# Altium footprint library H750.PcbLib: 22 footprints (part 1 of 2)
Each footprint in its own frame and in the unit in brackets; x right, y up, seen from the top. Pads: shape width x height; smd on the part's side, far side on the other; paste and mask are expansions set on the pad; w line width, h text height; cw(c..) or ccw(c..) is an arc to the next point about the centre after c.
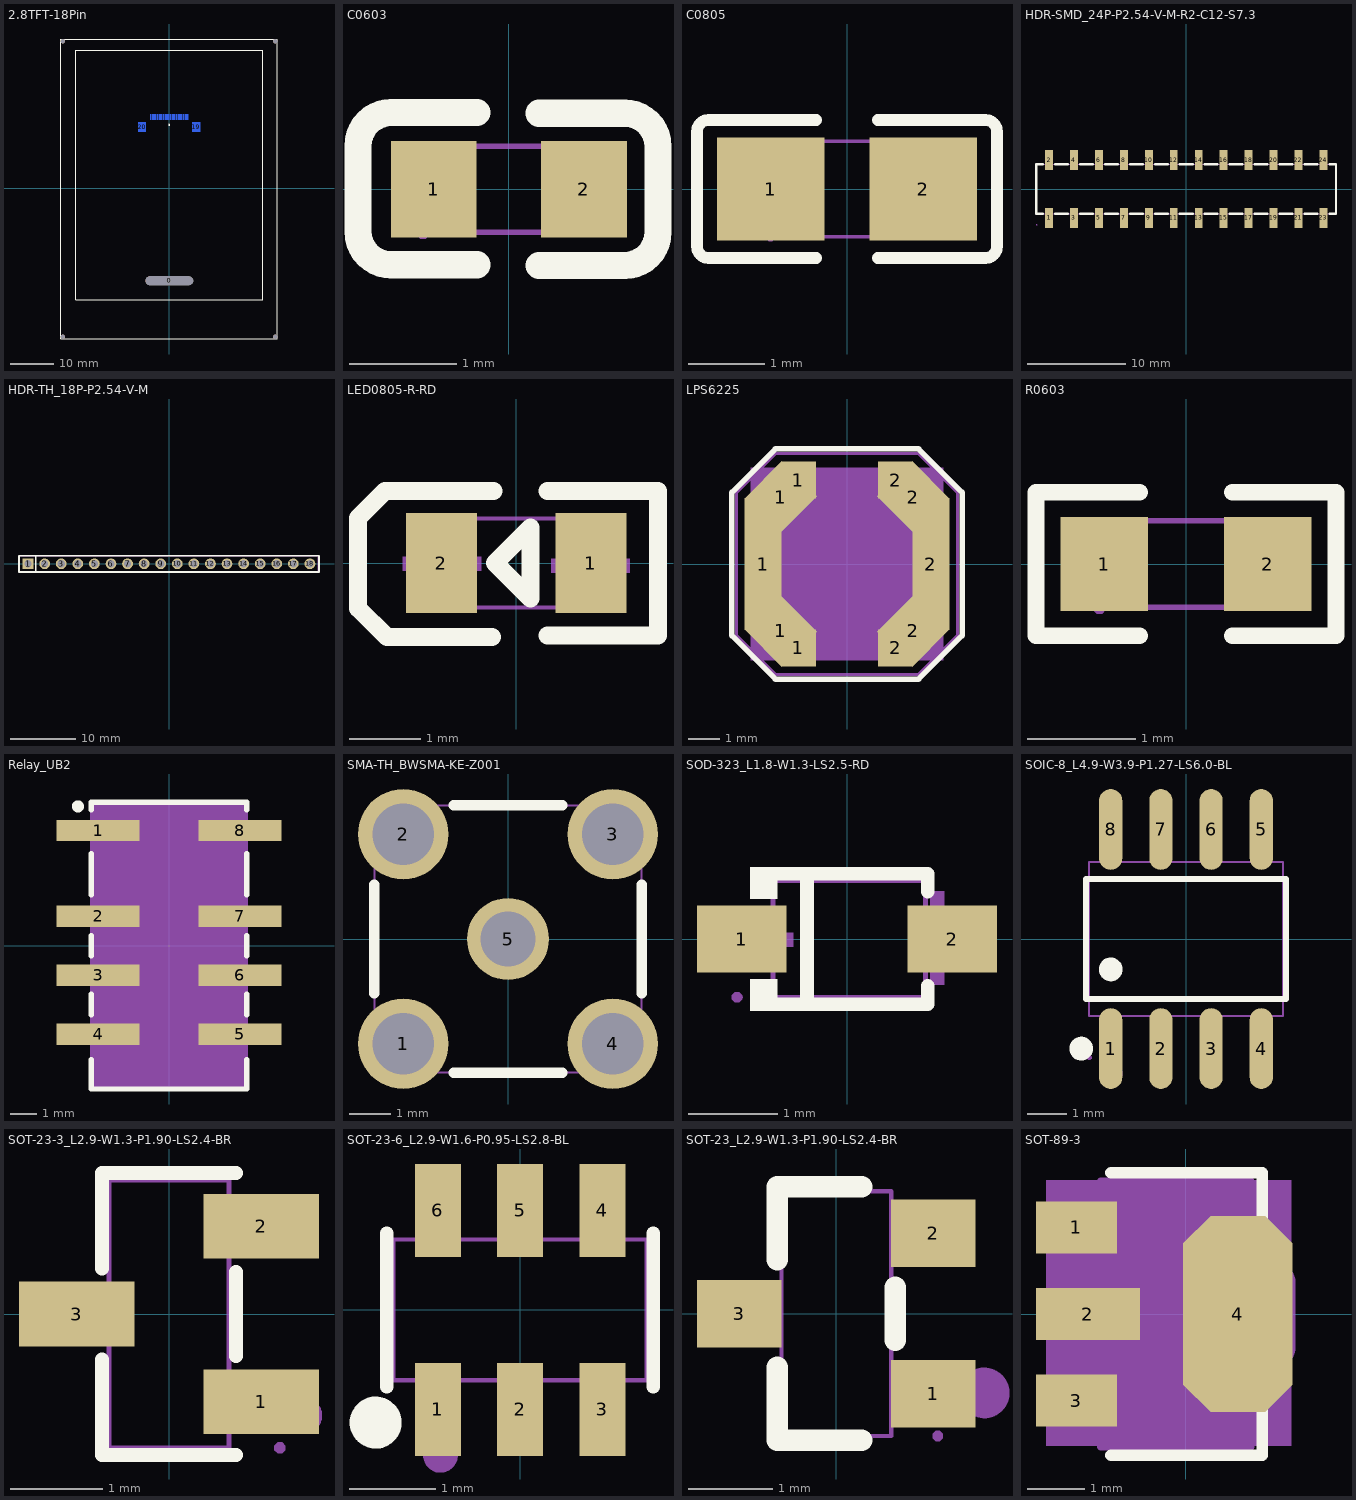
[diagram p0: the footprints below, top view; thin cyan lines are the x and y axes]

## 2.8TFT-18Pin [mm]
pads (25):
  oval 11x2 hole 2 slot 11 at 0 deg unplated paste+0.102 mask-11: 0(0.046,-21.395)
  rect 0.3x1.2 smd far side paste+0.102 mask+0.05: 1(-4.25,16.399) 2(-3.75,16.399) 3(-3.25,16.399) 4(-2.75,16.399) 5(-2.25,16.399) 6(-1.75,16.399) 7(-1.25,16.399) 8(-0.75,16.399) 9(-0.25,16.399) 10(0.25,16.399) 11(0.75,16.399) 12(1.25,16.399) 13(1.75,16.399) 14(2.25,16.399) 15(2.75,16.399) 16(3.25,16.399) 17(3.75,16.399) 18(4.25,16.399)
  rect 1.8x2.2 smd far side: 19(6.25,14.099) 20(-6.25,14.099)
  round 1 hole 1 unplated paste+0.102 mask-1: 21(-24.554,-34.342) 21(-24.554,33.908) 21(24.496,-34.342) 21(24.496,33.908)
Top Overlay:
  circle w0.254: c0,14.605 r0.1
  lines w0.254: -21.604,-25.792 21.596,-25.792 21.596,31.808 -21.604,31.808 ; -21.594,-25.783 -21.594,31.817 ; -25.023,-34.783 -25.023,34.417 24.977,34.417 24.977,-34.783 -25.023,-34.783
Bottom Overlay:
  circle w0.254: c0,14.605 r0.1
  lines w0.254: -6.604,-22.992 -6.604,11.811 ; -6.604,12.767 -6.604,10.811 ; -6.604,15.431 -6.604,16.399 -4.631,16.399 ; 4.631,16.399 6.604,16.399 ; 6.6,10.811 -6.604,10.811 ; 6.604,-22.993 6.604,11.81 ; 6.604,12.767 6.604,10.811 ; 6.604,15.431 6.604,16.399 ; -6.604,10.811 6.604,10.811 ; 6.604,10.811 6.604,16.399
  text "1" at -4.087,14.165 h1.53
  text "18" at 5.015,14.159 h1.54

## C0603 [mm]
pads (2):
  rect 0.8x0.9 smd: 1(-0.7,0) 2(0.7,0)
Top Overlay:
  lines w0.254: -0.296,-0.704 -1.096,-0.704 cw(c-1.096,-0.394) -1.406,-0.394 -1.405,0.406 cw(c-1.096,0.406) -1.096,0.715 -0.296,0.715 ; 0.28,-0.71 1.08,-0.71 ccw(c1.08,-0.4) 1.39,-0.4 1.39,0.4 ccw(c1.08,0.4) 1.08,0.71 0.28,0.71
Mechanical 15:
  region: -0.8,-0.46 -0.825,-0.46 -0.859,-0.425 -0.859,-0.376 -0.825,-0.341 -0.8,-0.34 -0.776,-0.341 -0.741,-0.376 -0.741,-0.425 -0.776,-0.46 -0.8,-0.46
  region: 0.8,-0.4 0.8,0.4 0.5,0.4 0.5,-0.4
  region: -0.8,-0.4 -0.8,0.4 -0.5,0.4 -0.5,-0.4
  lines w0.051: -0.8,-0.4 0.8,-0.4 0.8,0.4 -0.8,0.4 -0.8,-0.4

## C0805 [mm]
pads (2):
  rect 1.41x1.35 smd paste-100 mask+0.051: 1(-1,0) 2(1,0)
Top Overlay:
  lines w0.152: -0.401,-0.904 -1.811,-0.904 cw(c-1.811,-0.751) -1.964,-0.751 -1.964,0.751 cw(c-1.811,0.751) -1.811,0.904 -0.401,0.904 ; 0.401,-0.904 1.811,-0.904 ccw(c1.811,-0.751) 1.964,-0.751 1.964,0.751 ccw(c1.811,0.751) 1.811,0.904 0.401,0.904
Top Paste:
  region: 0.475,-0.62 0.475,-0.2 0.92,-0.2 0.92,0.25 0.48,0.25 0.475,0.66 0.525,0.71 1.675,0.71 1.725,0.66 1.725,-0.62 1.675,-0.67 0.525,-0.67
  region: -1.675,-0.62 -1.675,0.66 -1.625,0.71 -0.475,0.71 -0.425,0.66 -0.42,0.25 -0.87,0.25 -0.87,-0.2 -0.43,-0.2 -0.425,-0.62 -0.475,-0.67 -1.625,-0.67
Mechanical 15:
  region: -1.06,-0.625 -1.059,-0.601 -1.024,-0.566 -0.976,-0.566 -0.941,-0.601 -0.94,-0.625 -0.941,-0.65 -0.976,-0.684 -1.024,-0.684 -1.059,-0.65 -1.06,-0.625
  region: 1,0.625 1,-0.625 0.5,-0.625 0.5,0.625
  region: -1,-0.625 -1,0.625 -0.5,0.625 -0.5,-0.625
  lines w0.051: -1,-0.625 1,-0.625 1,0.625 -1,0.625 -1,-0.625

## HDR-SMD_24P-P2.54-V-M-R2-C12-S7.3 [mm]
pads (24):
  rect 0.8x2 smd: 1(-13.97,-2.95) 2(-13.97,2.95) 3(-11.43,-2.95) 4(-11.43,2.95) 5(-8.89,-2.95) 6(-8.89,2.95) 7(-6.35,-2.95) 8(-6.35,2.95) 9(-3.81,-2.95) 10(-3.81,2.95) 11(-1.27,-2.95) 12(-1.27,2.95) 13(1.27,-2.95) 14(1.27,2.95) 15(3.81,-2.95) 16(3.81,2.95) 17(6.35,-2.95) 18(6.35,2.95) 19(8.89,-2.95) 20(8.89,2.95) 21(11.43,-2.95) 22(11.43,2.95) 23(13.97,-2.95) 24(13.97,2.95)
Top Overlay:
  lines w0.254: -14.601,-2.5 -15.25,-2.5 -15.25,0.85 -15.25,2.5 -14.601,2.5 ; -13.339,-2.5 -12.061,-2.5 ; -13.339,2.5 -12.061,2.5 ; -10.799,-2.5 -9.521,-2.5 ; -10.799,2.5 -9.521,2.5 ; -8.259,-2.5 -6.981,-2.5 ; -8.259,2.5 -6.981,2.5 ; -5.719,-2.5 -4.441,-2.5 ; -5.719,2.5 -4.441,2.5 ; -3.179,-2.5 -1.901,-2.5 ; -3.179,2.5 -1.901,2.5 ; -0.639,-2.5 0.639,-2.5 ; -0.639,2.5 0.639,2.5 ; 1.901,-2.5 3.179,-2.5 ; 1.901,2.5 3.179,2.5 ; 4.441,-2.5 5.719,-2.5 ; 4.441,2.5 5.719,2.5 ; 6.981,-2.5 8.259,-2.5 ; 6.981,2.5 8.259,2.5 ; 9.521,-2.5 10.799,-2.5 ; 9.521,2.5 10.799,2.5 ; 12.061,-2.5 13.339,-2.5 ; 12.061,2.5 13.339,2.5 ; 14.601,-2.5 15.25,-2.5 15.25,2.5 14.601,2.5
Mechanical 15:
  region: 13.705,3.65 14.235,3.65 14.235,2.15 13.705,2.15
  region: 13.705,-2.15 14.235,-2.15 14.235,-3.65 13.705,-3.65
  region: 11.165,3.65 11.695,3.65 11.695,2.15 11.165,2.15
  region: 11.165,-2.15 11.695,-2.15 11.695,-3.65 11.165,-3.65
  region: 8.625,3.65 9.155,3.65 9.155,2.15 8.625,2.15
  region: 8.625,-2.15 9.155,-2.15 9.155,-3.65 8.625,-3.65
  region: 6.085,3.65 6.615,3.65 6.615,2.15 6.085,2.15
  region: 6.085,-2.15 6.615,-2.15 6.615,-3.65 6.085,-3.65
  region: 3.545,3.65 4.075,3.65 4.075,2.15 3.545,2.15
  region: 3.545,-2.15 4.075,-2.15 4.075,-3.65 3.545,-3.65
  region: 1.005,3.65 1.535,3.65 1.535,2.15 1.005,2.15
  region: 1.005,-2.15 1.535,-2.15 1.535,-3.65 1.005,-3.65
  region: -1.535,3.65 -1.005,3.65 -1.005,2.15 -1.535,2.15
  region: -1.535,-2.15 -1.005,-2.15 -1.005,-3.65 -1.535,-3.65
  region: -4.075,3.65 -3.545,3.65 -3.545,2.15 -4.075,2.15
  region: -4.075,-2.15 -3.545,-2.15 -3.545,-3.65 -4.075,-3.65
  region: -6.615,3.65 -6.085,3.65 -6.085,2.15 -6.615,2.15
  region: -6.615,-2.15 -6.085,-2.15 -6.085,-3.65 -6.615,-3.65
  region: -9.155,3.65 -8.625,3.65 -8.625,2.15 -9.155,2.15
  region: -9.155,-2.15 -8.625,-2.15 -8.625,-3.65 -9.155,-3.65
  region: -11.695,3.65 -11.165,3.65 -11.165,2.15 -11.695,2.15
  region: -11.695,-2.15 -11.165,-2.15 -11.165,-3.65 -11.695,-3.65
  region: -14.235,3.65 -13.705,3.65 -13.705,2.15 -14.235,2.15
  region: -14.235,-2.15 -13.705,-2.15 -13.705,-3.65 -14.235,-3.65
  region: -15.24,-3.71 -15.216,-3.71 -15.181,-3.675 -15.181,-3.626 -15.216,-3.591 -15.24,-3.59 -15.264,-3.591 -15.299,-3.626 -15.299,-3.675 -15.264,-3.71 -15.24,-3.71
  lines w0.051: -15.24,-2.5 15.24,-2.5 15.24,2.5 -15.24,2.5 -15.24,-2.5

## HDR-TH_18P-P2.54-V-M [mm]
pads (18):
  rect 1.65x1.6 hole 1.1: 1(-21.59,0)
  round 1.65 hole 1.1: 2(-19.05,0) 3(-16.51,0) 4(-13.97,0) 5(-11.43,0) 6(-8.89,0) 7(-6.35,0) 8(-3.81,0) 9(-1.27,0) 10(1.27,0) 11(3.81,0) 12(6.35,0) 13(8.89,0) 14(11.43,0) 15(13.97,0) 16(16.51,0) 17(19.05,0) 18(21.59,0)
Top Overlay:
  lines w0.254: -20.412,-1.25 -20.412,1.25 ; -22.98,-1.25 22.98,-1.25 22.98,1.25 -22.98,1.25 -22.98,-1.25
Mechanical 15:
  region: -21.91,0.32 -21.27,0.32 -21.27,-0.32 -21.91,-0.32
  region: -19.37,0.32 -18.73,0.32 -18.73,-0.32 -19.37,-0.32
  region: -16.83,0.32 -16.19,0.32 -16.19,-0.32 -16.83,-0.32
  region: -14.29,0.32 -13.65,0.32 -13.65,-0.32 -14.29,-0.32
  region: -11.75,0.32 -11.11,0.32 -11.11,-0.32 -11.75,-0.32
  region: -9.21,0.32 -8.57,0.32 -8.57,-0.32 -9.21,-0.32
  region: -6.67,0.32 -6.03,0.32 -6.03,-0.32 -6.67,-0.32
  region: -4.13,0.32 -3.49,0.32 -3.49,-0.32 -4.13,-0.32
  region: -1.59,0.32 -0.95,0.32 -0.95,-0.32 -1.59,-0.32
  region: 0.95,0.32 1.59,0.32 1.59,-0.32 0.95,-0.32
  region: 3.49,0.32 4.13,0.32 4.13,-0.32 3.49,-0.32
  region: 6.03,0.32 6.67,0.32 6.67,-0.32 6.03,-0.32
  region: 8.57,0.32 9.21,0.32 9.21,-0.32 8.57,-0.32
  region: 11.11,0.32 11.75,0.32 11.75,-0.32 11.11,-0.32
  region: 13.65,0.32 14.29,0.32 14.29,-0.32 13.65,-0.32
  region: 16.19,0.32 16.83,0.32 16.83,-0.32 16.19,-0.32
  region: 18.73,0.32 19.37,0.32 19.37,-0.32 18.73,-0.32
  region: 21.27,0.32 21.91,0.32 21.91,-0.32 21.27,-0.32
  region: -22.8,-1.25 -22.8,-1.225 -22.835,-1.19 -22.885,-1.19 -22.92,-1.225 -22.92,-1.25 -22.92,-1.275 -22.885,-1.31 -22.835,-1.31 -22.8,-1.275 -22.8,-1.25
  lines w0.051: -22.86,-1.25 22.86,-1.25 22.86,1.25 -22.86,1.25 -22.86,-1.25

## LED0805-R-RD [mm]
pads (2):
  rect 1x1.4 smd: 1(1.05,0) 2(-1.05,0)
Top Overlay:
  lines w0.254: -0.344,-1.043 -1.817,-1.043 -2.224,-0.636 -2.224,0.634 -1.843,1.015 -0.319,1.015 ; 0.443,-1.017 1.993,-1.017 1.993,1.015 0.443,1.015 ; -0.3,0 -0.2,-0.1 0.2,-0.5 0.2,0.5 -0.2,0.1 -0.3,0
Mechanical 6:
  region: -0.494,-0.109 -1.594,-0.109 -1.594,0.091 -0.494,0.091
  region: 0.494,0.06 1.594,0.06 1.594,-0.14 0.494,-0.14
  region: 0.941,-0.556 0.941,0.544 1.141,0.544 1.141,-0.556
Mechanical 15:
  region: -0.6,-0.625 -1,-0.625 -1,0.625 -0.6,0.625
  region: 1,-0.625 0.6,-0.625 0.6,0.625 1,0.625
  region: 0.94,0.625 0.941,0.601 0.976,0.566 1.024,0.566 1.059,0.601 1.06,0.625 1.059,0.65 1.024,0.684 0.976,0.684 0.941,0.65 0.94,0.625
  lines w0.051: -1,-0.625 1,-0.625 1,0.625 -1,0.625 -1,-0.625

## LPS6225 [mm]
pads (10):
  rect 1.2x4.25 smd: 1(-2.7,0) 2(2.7,0)
  rect 1.68x1.6 smd rot 135: 1(-2.126,-2.151) 2(2.126,2.151)
  rect 1.68x1.6 smd rot 45: 1(-2.126,2.151) 2(2.126,-2.151)
  rect 1.125x1.2 smd: 1(-1.562,-2.7) 1(-1.562,2.7) 2(1.562,-2.7) 2(1.562,2.7)
Top Overlay:
  lines w0.178: -3.7,-2.3 -3.7,0 -3.7,2.3 -2.3,3.7 0,3.7 2.3,3.7 3.7,2.3 3.7,0 3.7,-2.3 2.3,-3.7 0,-3.7 -2.3,-3.7 -3.7,-2.3
Mechanical 1:
  region: -3.103,3.103 3.103,3.103 3.103,-3.103 -3.103,-3.103
Mechanical 2:
  lines w0.102: -3.556,-2.286 -2.286,-3.556 2.286,-3.556 3.556,-2.286 3.556,2.286 2.286,3.556 -2.286,3.556 -3.556,2.286 -3.556,-2.286
  text ".Designator" at -1.306,-0.202 h1.57

## R0603 [mm]
pads (2):
  rect 0.806x0.864 smd paste-100 mask+0.051: 1(-0.753,0) 2(0.753,0)
Top Overlay:
  lines w0.152: -0.426,-0.661 -1.385,-0.661 -1.385,0.661 -0.426,0.661 ; 0.426,-0.661 1.385,-0.661 1.385,0.661 0.426,0.661
Top Paste:
  region: -0.355,0.4 -0.355,0.172 -0.735,0.172 -0.735,-0.158 -0.355,-0.158 -0.355,-0.4 -0.405,-0.45 -1.195,-0.45 -1.245,-0.4 -1.245,0.4 -1.195,0.45 -0.405,0.45
  region: 1.195,0.45 0.395,0.45 0.345,0.4 0.345,0.172 0.715,0.172 0.715,-0.158 0.345,-0.158 0.345,-0.4 0.395,-0.45 1.195,-0.45 1.245,-0.4 1.245,0.4
Mechanical 15:
  region: -0.74,-0.4 -0.741,-0.425 -0.776,-0.459 -0.825,-0.459 -0.86,-0.425 -0.86,-0.4 -0.86,-0.376 -0.825,-0.341 -0.776,-0.341 -0.741,-0.376 -0.74,-0.4
  region: 0.8,-0.4 0.8,0.4 0.5,0.4 0.5,-0.4
  region: -0.8,-0.4 -0.8,0.4 -0.5,0.4 -0.5,-0.4
  lines w0.051: -0.8,-0.4 0.8,-0.4 0.8,0.4 -0.8,0.4 -0.8,-0.4

## Relay_UB2 [mm]
pads (8):
  rect 3.1x0.8 smd: 1(-2.65,4.3) 2(-2.65,1.1) 3(-2.65,-1.1) 4(-2.65,-3.3) 5(2.65,-3.3) 6(2.65,-1.1) 7(2.65,1.1) 8(2.65,4.3)
Top Overlay:
  circle w0.254: c-3.4,5.2 r0.1
  lines w0.2: -2.9,-4.25 -2.9,-5.35 2.9,-5.35 2.9,-4.25 ; -2.9,-2.581 -2.9,-1.819 ; -2.9,-0.381 -2.9,0.381 ; -2.9,1.905 -2.9,3.429 ; -2.9,5.08 -2.9,5.35 2.9,5.35 2.9,5.08 ; 2.9,-2.581 2.9,-1.819 ; 2.9,-0.381 2.9,0.381 ; 2.9,1.905 2.9,3.429
Mechanical 2:
  circle w0.3: c-1.8,4.3 r0.1
  lines w0.1: -2.9,-5.35 2.9,-5.35 2.9,5.35 -2.9,5.35 -2.9,-5.35
  text ".Designator" at -1.08,-0.856 h1.57
Mechanical 3:
  region: -2.899,-5.349 -2.899,5.349 2.899,5.349 2.899,-5.349
  region: -2.298,4.001 -1.7,4.001 -1.7,4.599 -2.298,4.599

## SMA-TH_BWSMA-KE-Z001 [mm]
pads (5):
  round 2.2 hole 1.5: 1(-2.55,-2.55) 2(-2.55,2.55) 3(2.55,2.55)
  round 2.2 hole 1.5 copper offset 0,0: 4(2.55,-2.55)
  round 2 hole 1.35: 5(0,0)
Top Overlay:
  lines w0.254: -3.25,-1.316 -3.25,1.316 ; -1.316,-3.25 1.316,-3.25 ; -1.316,3.25 1.316,3.25 ; 3.25,-1.316 3.25,1.316
Mechanical 15:
  region: -3,-2.1 -2.1,-2.1 -2.1,-3 -3,-3
  region: -3,3 -2.1,3 -2.1,2.1 -3,2.1
  region: 2.1,3 3,3 3,2.1 2.1,2.1
  region: 2.1,-2.1 3,-2.1 3,-3 2.1,-3
  region: 0.425,0 0.424,0.084 0.359,0.239 0.24,0.358 0.084,0.422 -0.084,0.422 -0.24,0.358 -0.359,0.239 -0.425,0.084 -0.425,0 -0.425,-0.084 -0.359,-0.239 -0.24,-0.357 -0.084,-0.422 0.084,-0.422 0.24,-0.358 0.359,-0.239 0.424,-0.084 0.425,0
  region: -3.19,-3.25 -3.191,-3.226 -3.226,-3.193 -3.274,-3.193 -3.309,-3.226 -3.31,-3.25 -3.309,-3.274 -3.274,-3.307 -3.226,-3.307 -3.191,-3.274 -3.19,-3.25
  lines w0.051: -3.25,-3.25 -3.25,3.25 3.25,3.25 3.25,-3.25 -3.25,-3.25

## SOD-323_L1.8-W1.3-LS2.5-RD [mm]
pads (2):
  rect 1x0.75 smd: 1(-1.173,0) 2(1.173,0)
Top Overlay:
  region: -0.775,-0.802 -0.775,-0.45 -1.08,-0.45 -1.08,-0.802
  region: -0.775,0.802 -0.775,0.45 -1.08,0.45 -1.08,0.802
  lines w0.152: -0.851,-0.726 0.901,-0.726 0.901,-0.52 ; -0.851,0.726 0.901,0.726 0.901,0.53 ; -0.447,-0.726 -0.447,0.726
Mechanical 6:
  region: 1.083,0.53 1.083,-0.51 0.927,-0.51 0.927,0.53
  region: 1.315,0.09 1.315,-0.066 0.691,-0.066 0.691,0.09
  region: -1.225,0.07 -1.225,-0.086 -0.601,-0.086 -0.601,0.07
Mechanical 15:
  region: -0.815,0.16 -0.815,-0.16 -0.935,-0.16 -0.935,0.16
  region: -0.925,0.16 -0.925,-0.16 -1.225,-0.16 -1.225,0.16
  region: 0.985,0.16 0.985,-0.16 0.865,-0.16 0.865,0.16
  region: 1.275,0.16 1.275,-0.16 0.975,-0.16 0.975,0.16
  region: -1.285,-0.65 -1.284,-0.626 -1.249,-0.593 -1.201,-0.593 -1.166,-0.626 -1.165,-0.65 -1.166,-0.674 -1.201,-0.707 -1.249,-0.707 -1.284,-0.674 -1.285,-0.65
  lines w0.051: -0.825,-0.65 -0.825,0.65 0.875,0.65 0.875,-0.65 -0.825,-0.65

## SOIC-8_L4.9-W3.9-P1.27-LS6.0-BL [mm]
pads (8):
  oval 0.588x2.045 smd: 1(-1.905,-2.772) 2(-0.635,-2.772) 3(0.635,-2.772) 4(1.905,-2.772) 5(1.905,2.772) 6(0.635,2.772) 7(-0.635,2.772) 8(-1.905,2.772)
Top Overlay:
  circle w0.3: c-2.652,-2.772 r0.15
  circle w0.3: c-1.905,-0.769 r0.15
  lines w0.152: -2.526,-1.521 2.526,-1.521 2.526,1.521 -2.526,1.521 -2.526,-1.521
Mechanical 6:
  circle w0.3: c-1.905,-3.4 r0.15
Mechanical 15:
  region: 1.695,2.175 1.695,1.94 2.115,1.94 2.115,2.175
  region: 1.695,3 1.695,2.165 2.115,2.165 2.115,3
  region: 0.425,2.175 0.425,1.94 0.845,1.94 0.845,2.175
  region: 0.425,3 0.425,2.165 0.845,2.165 0.845,3
  region: -0.845,2.175 -0.845,1.94 -0.425,1.94 -0.425,2.175
  region: -0.845,3 -0.845,2.165 -0.425,2.165 -0.425,3
  region: -2.115,2.175 -2.115,1.94 -1.695,1.94 -1.695,2.175
  region: -2.115,3 -2.115,2.165 -1.695,2.165 -1.695,3
  region: 1.695,-2.175 1.695,-1.94 2.115,-1.94 2.115,-2.175
  region: 1.695,-3 1.695,-2.165 2.115,-2.165 2.115,-3
  region: 0.425,-2.175 0.425,-1.94 0.845,-1.94 0.845,-2.175
  region: 0.425,-3 0.425,-2.165 0.845,-2.165 0.845,-3
  region: -0.845,-2.175 -0.845,-1.94 -0.425,-1.94 -0.425,-2.175
  region: -0.845,-3 -0.845,-2.165 -0.425,-2.165 -0.425,-3
  region: -2.115,-2.175 -2.115,-1.94 -1.695,-1.94 -1.695,-2.175
  region: -2.115,-3 -2.115,-2.165 -1.695,-2.165 -1.695,-3
  region: -2.45,-3.06 -2.475,-3.06 -2.51,-3.025 -2.51,-2.975 -2.475,-2.94 -2.45,-2.94 -2.425,-2.94 -2.39,-2.975 -2.39,-3.025 -2.425,-3.06 -2.45,-3.06
  lines w0.051: -2.45,-1.95 2.45,-1.95 2.45,1.95 -2.45,1.95 -2.45,-1.95

## SOT-23-3_L2.9-W1.3-P1.90-LS2.4-BR [mm]
pads (3):
  rect 1.25x0.7 smd: 1(1,-0.95) 2(1,0.95) 3(-1,0)
Top Overlay:
  lines w0.152: -0.726,-0.495 -0.726,-1.526 0.726,-1.526 ; -0.726,0.495 -0.726,1.526 0.726,1.526 ; 0.726,-0.455 0.726,0.455
Mechanical 6:
  circle w0.2: c1.46,-1.1 r0.1
Mechanical 15:
  region: -1.2,-0.215 -1.2,0.215 -0.9,0.215 -0.9,-0.215
  region: -0.91,-0.215 -0.91,0.215 -0.64,0.215 -0.64,-0.215
  region: 0.9,-1.165 0.9,-0.735 1.2,-0.735 1.2,-1.165
  region: 0.64,-1.165 0.64,-0.735 0.91,-0.735 0.91,-1.165
  region: 0.9,0.735 0.9,1.165 1.2,1.165 1.2,0.735
  region: 0.64,0.735 0.64,1.165 0.91,1.165 0.91,0.735
  region: 1.26,-1.45 1.259,-1.474 1.224,-1.508 1.176,-1.508 1.141,-1.474 1.14,-1.45 1.141,-1.426 1.176,-1.392 1.224,-1.392 1.259,-1.426 1.26,-1.45
  lines w0.051: -0.65,-1.45 0.65,-1.45 0.65,1.45 -0.65,1.45 -0.65,-1.45

## SOT-23-6_L2.9-W1.6-P0.95-LS2.8-BL [mm]
pads (6):
  rect 0.532x1.072 smd: 1(-0.95,-1.149) 2(0,-1.149) 3(0.95,-1.149) 4(0.95,1.149) 5(0,1.149) 6(-0.95,1.149)
Top Overlay:
  circle w0.3: c-1.668,-1.301 r0.15
  lines w0.152: -1.539,-0.889 -1.539,0.889 ; 1.539,-0.889 1.539,0.889
Mechanical 6:
  circle w0.2: c-0.92,-1.68 r0.1
Mechanical 15:
  region: -1.165,0.935 -0.735,0.935 -0.735,0.803 -1.165,0.803
  region: -1.165,0.925 -0.735,0.925 -0.735,1.4 -1.165,1.4
  region: -0.215,0.935 0.215,0.935 0.215,0.803 -0.215,0.803
  region: -0.215,0.925 0.215,0.925 0.215,1.4 -0.215,1.4
  region: 0.735,0.935 1.165,0.935 1.165,0.803 0.735,0.803
  region: 0.735,0.925 1.165,0.925 1.165,1.4 0.735,1.4
  region: 0.735,-0.803 1.165,-0.803 1.165,-0.935 0.735,-0.935
  region: 0.735,-0.925 1.165,-0.925 1.165,-1.4 0.735,-1.4
  region: -0.215,-0.803 0.215,-0.803 0.215,-0.935 -0.215,-0.935
  region: -0.215,-0.925 0.215,-0.925 0.215,-1.4 -0.215,-1.4
  region: -1.165,-0.803 -0.735,-0.803 -0.735,-0.935 -1.165,-0.935
  region: -1.165,-0.925 -0.735,-0.925 -0.735,-1.4 -1.165,-1.4
  region: -1.403,-1.4 -1.403,-1.425 -1.438,-1.459 -1.488,-1.459 -1.523,-1.425 -1.523,-1.4 -1.523,-1.375 -1.488,-1.341 -1.438,-1.341 -1.403,-1.375 -1.403,-1.4
  lines w0.051: -1.463,-0.813 -1.463,0.813 1.463,0.813 1.463,-0.813 -1.463,-0.813

## SOT-23_L2.9-W1.3-P1.90-LS2.4-BR [mm]
pads (3):
  rect 1x0.8 smd: 1(1.15,-0.95) 2(1.15,0.95) 3(-1.15,0)
Top Overlay:
  lines w0.254: -0.7,-0.636 -0.7,-1.5 0.3,-1.5 ; -0.7,0.636 -0.7,1.5 0.3,1.5 ; 0.7,-0.314 0.7,0.314
Mechanical 6:
  circle w0.3: c1.753,-0.94 r0.15
Mechanical 15:
  region: -1.2,-0.2 -1.2,0.2 -0.8,0.2 -0.8,-0.2
  region: -0.81,-0.2 -0.81,0.2 -0.64,0.2 -0.64,-0.2
  region: 0.8,0.75 0.8,1.15 1.2,1.15 1.2,0.75
  region: 0.64,0.75 0.64,1.15 0.81,1.15 0.81,0.75
  region: 0.8,-1.15 0.8,-0.75 1.2,-0.75 1.2,-1.15
  region: 0.64,-1.15 0.64,-0.75 0.81,-0.75 0.81,-1.15
  region: 1.2,-1.51 1.175,-1.51 1.14,-1.475 1.14,-1.425 1.175,-1.39 1.2,-1.39 1.225,-1.39 1.26,-1.425 1.26,-1.475 1.225,-1.51 1.2,-1.51
  lines w0.051: -0.65,-1.45 0.65,-1.45 0.65,1.45 -0.65,1.45 -0.65,-1.45

## SOT-89-3 [mm]
pads (4):
  rect 1.4x0.9 smd: 1(-1.9,1.5) 3(-1.9,-1.5)
  rect 1.8x0.9 smd: 2(-1.7,0)
  oct 1.9x3.4 smd: 4(0.9,0)
Top Overlay:
  lines w0.2: -1.3,-2.45 1.325,-2.45 1.325,-1.35 ; -1.3,2.45 1.325,2.45 1.325,1.35
Mechanical 1:
  region: 1.826,2.316 1.826,-2.284 -2.424,-2.284 -2.424,2.316
Mechanical 2:
  lines w0.127: -2.414,-1.748 -2.414,-1.282 ; -2.414,-0.249 -2.414,0.218 -1.475,0.218 ; -2.414,1.252 -2.414,1.718 ; -2.407,-1.755 -1.475,-1.755 -1.475,-2.3 ; -2.407,1.245 -1.475,1.245 -1.475,0.222 ; -2.407,-1.275 -1.475,-1.275 -1.475,-0.255 -2.407,-0.255 ; -2.407,1.725 -1.475,1.725 -1.475,2.3 1.125,2.3 1.125,0.885 1.484,0.885 cw(c1.484,0.532) 1.836,0.532 1.836,-0.563 cw(c1.484,-0.563) 1.484,-0.915 1.125,-0.915 1.125,-2.3 -1.475,-2.3
  text ".Designator" at -0.302,1.456 h1.57